# Altium footprint library auton_led_lib.PcbLib: 2 footprints
Each footprint in its own frame and in the unit in brackets; x right, y up, seen from the top. Pads: shape width x height; smd on the part's side, far side on the other; paste and mask are expansions set on the pad; w line width, h text height; cw(c..) or ccw(c..) is an arc to the next point about the centre after c.
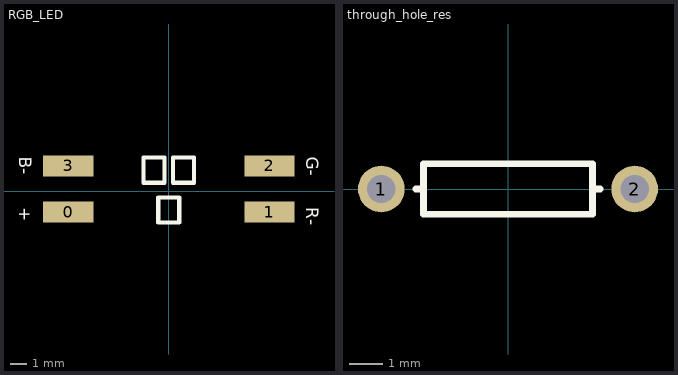
[diagram p0: the footprints below, top view; thin cyan lines are the x and y axes]

## RGB_LED [mil]
pads (4):
  rect 120x50 smd: 0(-240,-50) 1(240,-50) 2(240,60) 3(-240,60)
Top Overlay:
  lines w10: -60,20 -10,20 -10,80 -60,80 -60,20 ; -25,-75 25,-75 25,-15 -25,-15 -25,-75 ; 10,20 60,20 60,80 10,80 10,20
  text "+" at -357,-38 h30
  text "B-" at -357,82 h30
  text "G-" at 328,82 h30
  text "R-" at 328,-38 h30

## through_hole_res [mm]
pads (2):
  round 1.4 hole 0.85: 1(-3.81,0) 2(3.81,0)
Top Overlay:
  lines w0.2: -2.769,0 -2.54,0 ; 2.769,0 2.54,0 ; 2.54,0 2.54,-0.762 -2.54,-0.762 -2.54,0.762 2.54,0.762 2.54,0